# EAGLE library part FT232RL (library AC_nest_parts)
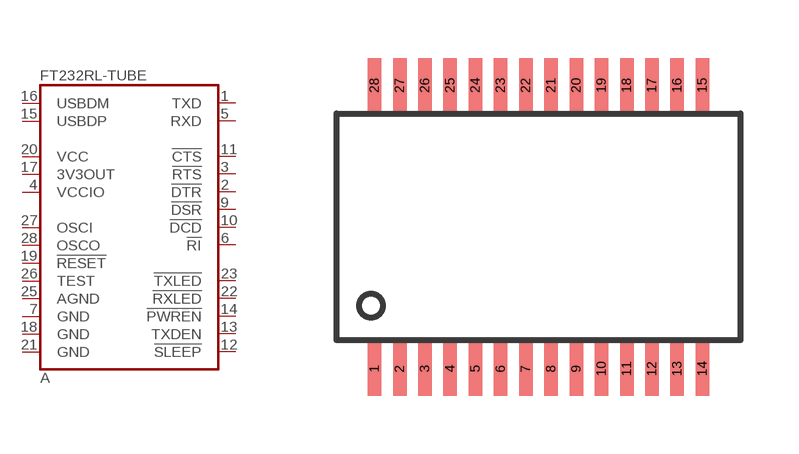
[diagram p2: symbol with the pads of SSOP28-LD; footprint SSOP28-LD]

Designator prefix A

## FT232RL (AVAILABILITY: Unavailable; DESCRIPTION: USB-to-UART 1-CH 256byte FIFO 5V 28-Pin SSOP Tube; MF: FTDI,; MP: FT232RL-TUBE; PACKAGE: SSOP-28 FTDI; PRICE: None)  [SSOP28-LD]
1  TXD  out
2  !DTR  out
3  !RTS  out
4  VCCIO  pwr
5  RXD  in
6  !RI  nc
7  GND  pwr
9  !DSR  nc
10  !DCD  nc
11  !CTS  in
12  !SLEEP  nc
13  TXDEN  nc
14  !PWREN  nc
15  USBDP
16  USBDM
17  3V3OUT  pwr
18  GND  pwr
19  !RESET  nc
20  VCC  pwr
21  GND  pwr
22  !RXLED  in
23  !TXLED  in
25  AGND  pwr
26  TEST  in
27  OSCI  nc
28  OSCO  out

## Footprint SSOP28-LD (pad centres in mm)
smd 0.348 x 1.397: 1 -4.225,-3.656; 2 -3.575,-3.656; 3 -2.925,-3.656; 4 -2.275,-3.656; 5 -1.625,-3.656; 6 -0.975,-3.656; 7 -0.325,-3.656; 8 0.325,-3.656; 9 0.975,-3.656; 10 1.625,-3.656; 11 2.275,-3.656; 12 2.925,-3.656; 13 3.575,-3.656; 14 4.225,-3.656; 15 4.225,3.656; 16 3.575,3.656; 17 2.925,3.656; 18 2.275,3.656; 19 1.625,3.656; 20 0.975,3.656; 21 0.325,3.656; 22 -0.325,3.656; 23 -0.975,3.656; 24 -1.625,3.656; 25 -2.275,3.656; 26 -2.925,3.656; 27 -3.575,3.656; 28 -4.225,3.656